# EAGLE library part MSP430F5508 (library custom)
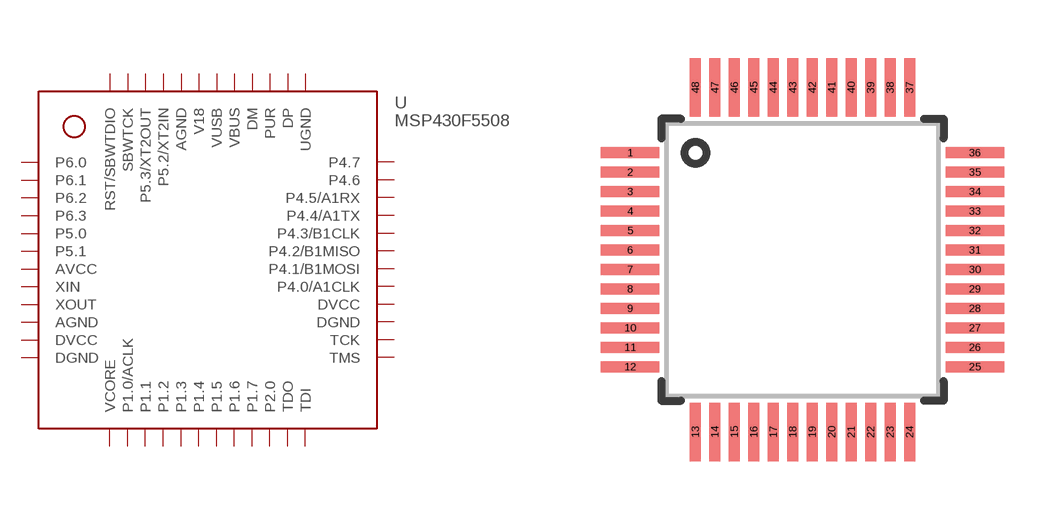
[diagram p48: symbol with the pads of LQFP-48; footprint LQFP-48]

Designator prefix U

## MSP430F5508  [LQFP-48]
1  P6.0
2  P6.1
3  P6.2
4  P6.3
5  P5.0
6  P5.1
7  AVCC
8  XIN
9  XOUT
10  AGND
11  DVCC
12  DGND
13  VCORE
14  P1.0/ACLK
15  P1.1
16  P1.2
17  P1.3
18  P1.4
19  P1.5
20  P1.6
21  P1.7
22  P2.0
23  TDO
24  TDI
25  TMS
26  TCK
27  DGND
28  DVCC
29  P4.0/A1CLK
30  P4.1/B1MOSI
31  P4.2/B1MISO
32  P4.3/B1CLK
33  P4.4/A1TX
34  P4.5/A1RX
35  P4.6
36  P4.7
37  UGND
38  DP
39  PUR
40  DM
41  VBUS
42  VUSB
43  V18
44  AGND
45  P5.2/XT2IN
46  P5.3/XT2OUT
47  SBWTCK
48  RST/SBWTDIO

## Footprint LQFP-48 (pad centres in mm)
smd 1.5 x 0.28: 1 -4.425,2.75; 2 -4.425,2.25; 3 -4.425,1.75; 4 -4.425,1.25; 5 -4.425,0.75; 6 -4.425,0.25; 7 -4.425,-0.25; 8 -4.425,-0.75; 9 -4.425,-1.25; 10 -4.425,-1.75; 11 -4.425,-2.25; 12 -4.425,-2.75; 25 4.425,-2.75; 26 4.425,-2.25; 27 4.425,-1.75; 28 4.425,-1.25; 29 4.425,-0.75; 30 4.425,-0.25; 31 4.425,0.25; 32 4.425,0.75; 33 4.425,1.25; 34 4.425,1.75; 35 4.425,2.25; 36 4.425,2.75
smd 0.28 x 1.5: 13 -2.75,-4.425; 14 -2.25,-4.425; 15 -1.75,-4.425; 16 -1.25,-4.425; 17 -0.75,-4.425; 18 -0.25,-4.425; 19 0.25,-4.425; 20 0.75,-4.425; 21 1.25,-4.425; 22 1.75,-4.425; 23 2.25,-4.425; 24 2.75,-4.425; 37 2.75,4.425; 38 2.25,4.425; 39 1.75,4.425; 40 1.25,4.425; 41 0.75,4.425; 42 0.25,4.425; 43 -0.25,4.425; 44 -0.75,4.425; 45 -1.25,4.425; 46 -1.75,4.425; 47 -2.25,4.425; 48 -2.75,4.425